# Altium footprint library PCB2.PcbLib: 14 footprints
Each footprint in its own frame and in the unit in brackets; x right, y up, seen from the top. Pads: shape width x height; smd on the part's side, far side on the other; paste and mask are expansions set on the pad; w line width, h text height; cw(c..) or ccw(c..) is an arc to the next point about the centre after c.
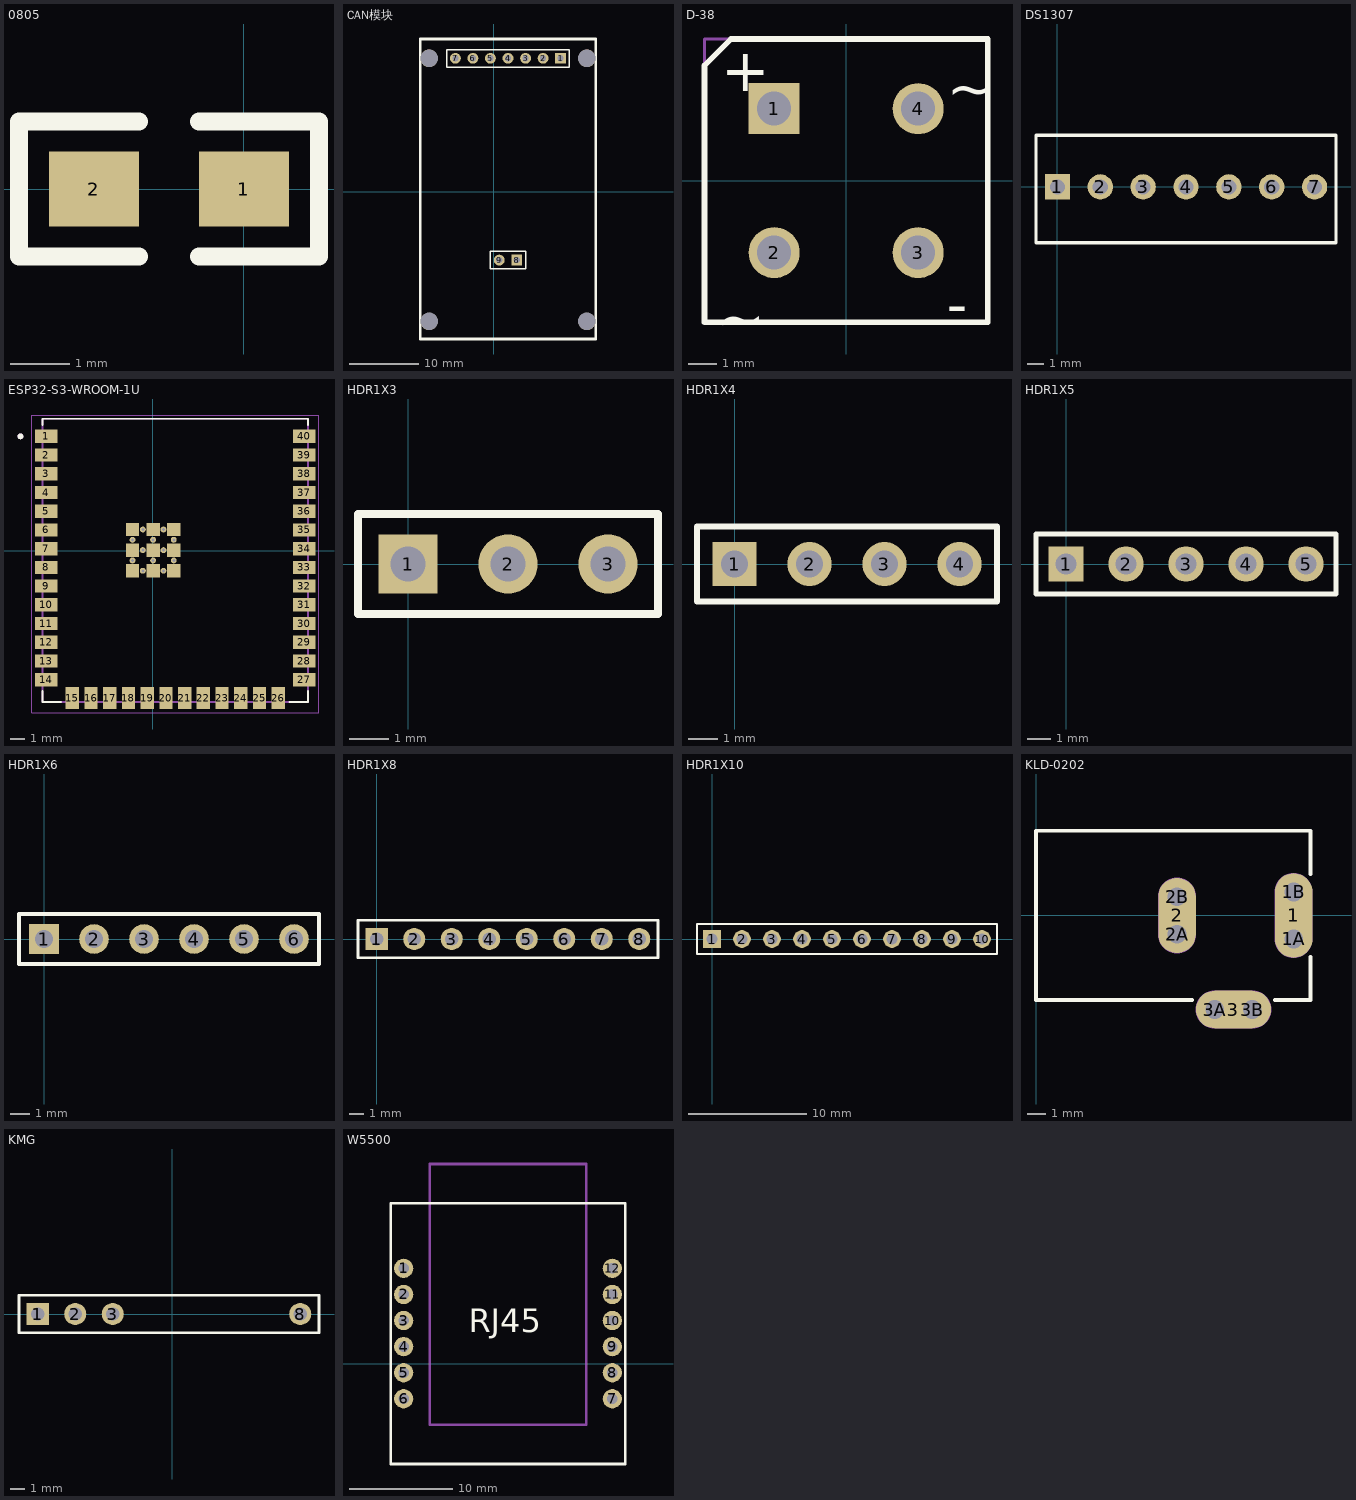
[diagram p0: the footprints below, top view; thin cyan lines are the x and y axes]

## 0805 [mil]
pads (2):
  rect 60x50 smd: 1(0,0) 2(-100,0)
Top Overlay:
  lines w12: -70,-45 -150,-45 -150,45 -70,45 ; -30,-45 50,-45 50,45 -30,45

## CAN模块 [mil]
pads (13):
  rect 62x62 hole 35 paste+0 mask+4: 1(380,760) 8(130,-390)
  round 62 hole 35 paste+0 mask+4: 2(280,760) 3(180,760) 4(80,760) 5(-20,760) 6(-120,760) 7(-220,760) 9(30,-390)
  round 100 hole 100 unplated paste+0: ""(-370,-740) ""(-370,760) ""(530,-740) ""(530,760)
Top Overlay:
  lines w7.99: -270,710 355,710 ; -20,-440 105,-440
  lines w8: -270,710 -270,810 430,810 430,710 355,710 ; -20,-440 -20,-340 180,-340 180,-440 105,-440
  lines w15: -420,-840 -420,870 580,870 580,-840 -420,-840

## D-38 [mm] "Bridge Rectifier; 4 Terminals; Body 9.4 x 9.4 mm (typ); Pitch 5.08 mm"
height 9.91
pads (4):
  rect 1.8x1.8 hole 1.2: 1(-2.54,2.54)
  round 1.8 hole 1.2: 2(-2.54,-2.54) 3(2.54,-2.54) 4(2.54,2.54)
Top Overlay:
  lines w0.2: -5,-5 -5,4.064 -4.064,5 5,5 5,-5 -5,-5
  text "+" at -4.41,3.164 h1.5
  text "-" at 3.556,-5.08 h1.5
  text "~" at -4.572,-5.588 h1.5
  text "~" at 3.556,2.54 h1.5
Mechanical 13:
  lines w0.1: -5,-5 -5,5 5,5 5,-5 -5,-5
3D body: height 9.91, standoff 0, extent -5,-5 5,5

## DS1307 [mm] "Connector; Header; 7 Position"
pads (7):
  rect 1.5x1.5 hole 0.9: 1(0,0)
  round 1.5 hole 0.9: 2(2.54,0) 3(5.08,0) 4(7.62,0) 5(10.16,0) 6(12.7,0) 7(15.24,0)
Top Overlay:
  lines w0.2: -1.27,-3.302 -1.27,3.048 16.51,3.048 16.51,-3.302 -1.27,-3.302

## ESP32-S3-WROOM-1U [mm]
pads (61):
  rect 1.5x0.9 smd: 1(-7.226,7.775) 2(-7.226,6.505) 3(-7.226,5.235) 4(-7.226,3.965) 5(-7.226,2.695) 6(-7.226,1.425) 7(-7.226,0.155) 8(-7.226,-1.115) 9(-7.226,-2.385) 10(-7.226,-3.655) 11(-7.226,-4.925) 12(-7.226,-6.195) 13(-7.226,-7.465) 14(-7.226,-8.735) 27(10.274,-8.735) 28(10.274,-7.465) 29(10.274,-6.195) 30(10.274,-4.925) 31(10.274,-3.655) 32(10.274,-2.385) 33(10.274,-1.115) 34(10.274,0.155) 35(10.274,1.425) 36(10.274,2.695) 37(10.274,3.965) 38(10.274,5.235) 39(10.274,6.505) 40(10.274,7.775)
  rect 0.9x1.5 smd: 15(-5.461,-9.985) 16(-4.191,-9.985) 17(-2.921,-9.985) 18(-1.651,-9.985) 19(-0.381,-9.985) 20(0.889,-9.985) 21(2.159,-9.985) 22(3.429,-9.985) 23(4.699,-9.985) 24(5.969,-9.985) 25(7.239,-9.985) 26(8.509,-9.985)
  rect 0.9x0.9 smd: 41_1(-1.376,1.455) 41_2(0.024,1.455) 41_3(1.424,1.455) 41_4(-1.376,0.055) 41_5(0.024,0.055) 41_6(1.424,0.055) 41_7(-1.376,-1.345) 41_8(0.024,-1.345) 41_9(1.424,-1.345)
  round 0.4 hole 0.2 mask+0: 41_10(-0.676,1.455) 41_11(0.724,1.455) 41_12(-1.376,0.755) 41_13(0.024,0.755) 41_14(1.424,0.755) 41_15(-0.676,0.055) 41_16(0.724,0.055) 41_17(-1.376,-0.645) 41_18(0.024,-0.645) 41_19(1.424,-0.645) 41_20(-0.676,-1.345) 41_21(0.724,-1.345)
Top Overlay:
  circle w0.2: c-8.976,7.775 r0.1
  lines w0.127: -7.476,-9.505 -7.476,-10.235 -6.231,-10.235 ; -7.476,8.545 -7.476,8.965 10.524,8.965 10.524,8.545 ; 9.279,-10.235 10.524,-10.235 10.524,-9.505
Mechanical 13:
  circle w0.2: c-8.976,7.775 r0.1
  lines w0.127: -7.476,-10.235 -7.476,8.965 10.524,8.965 10.524,-10.235 -7.476,-10.235
Mechanical 15:
  lines w0.05: -8.226,-10.985 11.274,-10.985 11.274,9.215 -8.226,9.215 -8.226,-10.985

## HDR1X3 [mm] "Connector; Header; 3 Position"
pads (3):
  rect 1.5x1.5 hole 0.9: 1(0,0)
  round 1.5 hole 0.9: 2(2.54,0) 3(5.08,0)
Top Overlay:
  lines w0.2: -1.27,-1.27 6.35,-1.27 6.35,1.27 -1.27,1.27 -1.27,-1.27

## HDR1X4 [mm] "Connector; Header; 4 Position"
pads (4):
  rect 1.5x1.5 hole 0.9: 1(0,0)
  round 1.5 hole 0.9: 2(2.54,0) 3(5.08,0) 4(7.62,0)
Top Overlay:
  lines w0.2: -1.27,-1.27 -1.27,1.27 8.89,1.27 8.89,-1.27 -1.27,-1.27

## HDR1X5 [mm] "Connector; Header; 5 Position"
pads (5):
  rect 1.5x1.5 hole 0.9: 1(0,0)
  round 1.5 hole 0.9: 2(2.54,0) 3(5.08,0) 4(7.62,0) 5(10.16,0)
Top Overlay:
  lines w0.2: -1.27,-1.27 -1.27,1.27 11.43,1.27 11.43,-1.27 -1.27,-1.27

## HDR1X6 [mm] "Connector; Header; 6 Position"
pads (6):
  rect 1.5x1.5 hole 0.9: 1(0,0)
  round 1.5 hole 0.9: 2(2.54,0) 3(5.08,0) 4(7.62,0) 5(10.16,0) 6(12.7,0)
Top Overlay:
  lines w0.2: -1.27,-1.27 -1.27,1.27 13.97,1.27 13.97,-1.27 -1.27,-1.27

## HDR1X8 [mm] "Connector; Header; 8 Position"
pads (8):
  rect 1.5x1.5 hole 0.9: 1(0,0)
  round 1.5 hole 0.9: 2(2.54,0) 3(5.08,0) 4(7.62,0) 5(10.16,0) 6(12.7,0) 7(15.24,0) 8(17.78,0)
Top Overlay:
  lines w0.2: -1.27,-1.27 -1.27,1.27 19.05,1.27 19.05,-1.27 -1.27,-1.27

## HDR1X10 [mm] "Connector; Header; 10 Position"
pads (10):
  rect 1.5x1.5 hole 0.9: 1(0,0)
  round 1.5 hole 0.9: 2(2.54,0) 3(5.08,0) 4(7.62,0) 5(10.16,0) 6(12.7,0) 7(15.24,0) 8(17.78,0) 9(20.32,0) 10(22.86,0)
Top Overlay:
  lines w0.2: -1.27,-1.27 -1.27,1.27 0.635,1.27 24.13,1.27 24.13,-1.27 -1.27,-1.27

## KLD-0202 [mm] "DC Power Jack, 2.5mm, KLD Series, PCB Mount"
pads (9):
  oval 2x4.5 all layers, no hole: 1(13.7,0)
  round 1.5 hole 1: 1A(13.7,-1.25) 1B(13.7,1.25) 2A(7.5,-1) 2B(7.5,1) 3A(9.5,-5) 3B(11.5,-5)
  oval 2x4 all layers, no hole: 2(7.5,0)
  oval 4x2 all layers, no hole: 3(10.5,-5)
Top Overlay:
  lines w0.2: 8.3,-4.5 0,-4.5 0,4.5 14.6,4.5 14.6,2.2 ; 12.7,-4.5 14.6,-4.5 14.6,-2.2
Mechanical 1:
  lines w1: 7.5,-1 7.5,1 ; 9.5,-5 11.5,-5 ; 13.7,-1.25 13.7,1.25
Mechanical 2:
  lines w2.016: 7.5,-1 7.5,1 ; 9.5,-5 11.5,-5 ; 13.7,-1.25 13.7,1.25

## KMG [mm]
pads (4):
  rect 1.5x1.5 hole 0.9: 1(-9.094,0.011)
  round 1.5 hole 0.9: 2(-6.554,0.011) 3(-4.014,0.011) 8(8.686,0.011)
Top Overlay:
  lines w0.2: -10.364,-1.259 -10.364,1.281 9.956,1.281 9.956,-1.259 -10.364,-1.259

## W5500 [mil]
pads (12):
  round 74 hole 40 paste+0 mask+2: 1(1280,365) 2(1280,265) 3(1280,165) 4(1280,65) 5(1280,-35) 6(1280,-135) 7(2080,-135) 8(2080,-35) 9(2080,65) 10(2080,165) 11(2080,265) 12(2080,365)
Top Overlay:
  lines w10: 1230,-385 2130,-385 2130,615 1230,615 1230,-385
  text "RJ45" at 1530,120 h90
Mechanical 15:
  lines w10: 1380,-235 1980,-235 1980,765 1380,765 1380,-235